# Altium schematic symbol library veml7700_connector_schematic.SchLib: 1 symbol
Pins are listed as number, name and electrical type; pins without a type are passive.

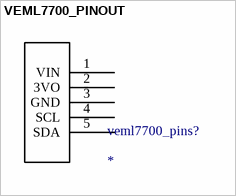
[diagram p0: symbol VEML7700_PINOUT]

## VEML7700_PINOUT
designator veml7700_pins?
footprint PCBComponent_1
footprint veml7700_footprint
pins: 1 VIN, 2 3VO, 3 GND, 4 SCL, 5 SDA